# EAGLE library part AVR-SPI-6 (library LoganSmith-Connectors)
AVR 6-pin SPI ISP header
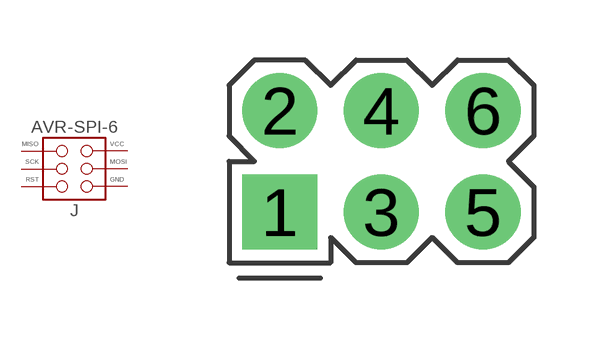
[diagram p5: symbol with the pads of 3X2_SQ1; footprint 3X2_SQ1]

Designator prefix J

## AVR-SPI-6  [3X2_SQ1]
1  MISO  out
2  VCC  pwr
3  SCK  out
4  MOSI  in
5  RST  in
6  GND  sup

## Footprint 3X2_SQ1 (pad centres in mm)
drill 1.016 pad 1.88 square: 1 -2.54,-1.27
drill 1.016 pad 1.88: 2 -2.54,1.27; 3 0,-1.27; 4 0,1.27; 5 2.54,-1.27; 6 2.54,1.27